# EAGLE library part 6N138 (library CC2-BufferPack-V1R0-21-May-2019)
MOTOROLA OPTO COUPLER
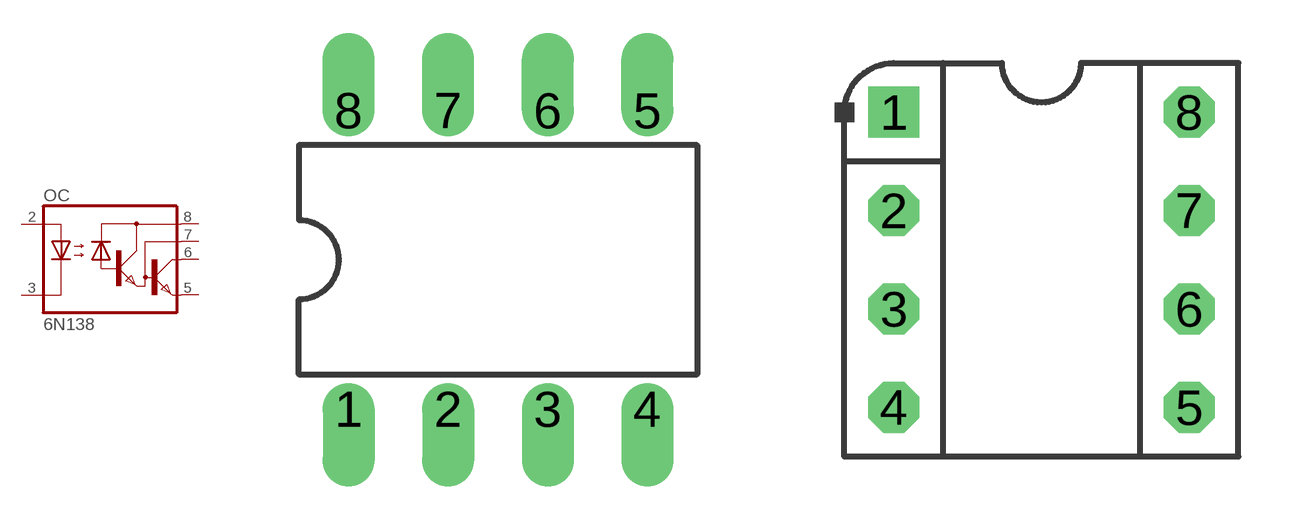
[diagram p11: symbol with the pads of DIL08; footprints DIL08, DIL08-3-TOP]

Designator prefix OC

## 6N138  [DIL08]
2  A  pas
3  C  pas
5  GND  pas
6  VO  pas
7  VB  pas
8  VCC  pas

## 6N138-T  [DIL08-3-TOP]
Pads as for DIL08

## Footprint DIL08 (pad centres in mm)
Dual In Line Package
drill 0.813 offset: 1 -3.81,-3.81; 2 -1.27,-3.81; 3 1.27,-3.81; 4 3.81,-3.81; 5 3.81,3.81; 6 1.27,3.81; 7 -1.27,3.81; 8 -3.81,3.81

## Footprint DIL08-3-TOP (pad centres in mm)
Dual In Line Package (DIP) Socket Dual In Line Package (DIP) Socket Row Spacing: 0.3 inch (7.62 mm/300 mil) Number of Pins: (Grid): 8 (2 x 4) Pitch: 0.100 inch (2.54mm) Mounting Type: Through Hole Copyright ©07 Jan 2013, by: John Eric Turner and his Father. http://www.GIMEchip.com/ sales@GIMEchip.com Licensed to: http://www.RetroZilla.org/ sales@RetroZilla.org RetroZilla.org, LLC component footprints for EAGLE v5.xx. The footprints contained within this library were created by GIMEchip.com and have been licensed to RetroZilla.org, LLC. You may use these footprints in your own projects, however, please take note that we CANNOT guarantee the accuracy of these footprints (nor any part of this library). We make NO guarantees that the footprints or schematic symbols in this library are flawless, and we make no promises of fitness for production, prototyping or any other purpose. These libraries are provided for informational purposes only, and are used at your own discretion. By downloading these libraries, you agree that we cannot be held responsible for faulty PCBs. You should always check the footprints with a 1:1 printout. Neither GIMEchip.com, RetroZilla.org, LLC nor anyone affiliated with same shall be held responsible for any outcome resulting from the usage of these files. Should any errors be found, pleease contact us at one of the above email addresses.
drill 0.813 square: 1 -3.81,3.81
drill 0.813 octagon: 2 -3.81,1.27; 3 -3.81,-1.27; 4 -3.81,-3.81; 5 3.81,-3.81; 6 3.81,-1.27; 7 3.81,1.27; 8 3.81,3.81